# Altium schematic symbol library kmilo17pet-NSC_Switcher.SchLib: 2226 symbols (part 37 of 59)
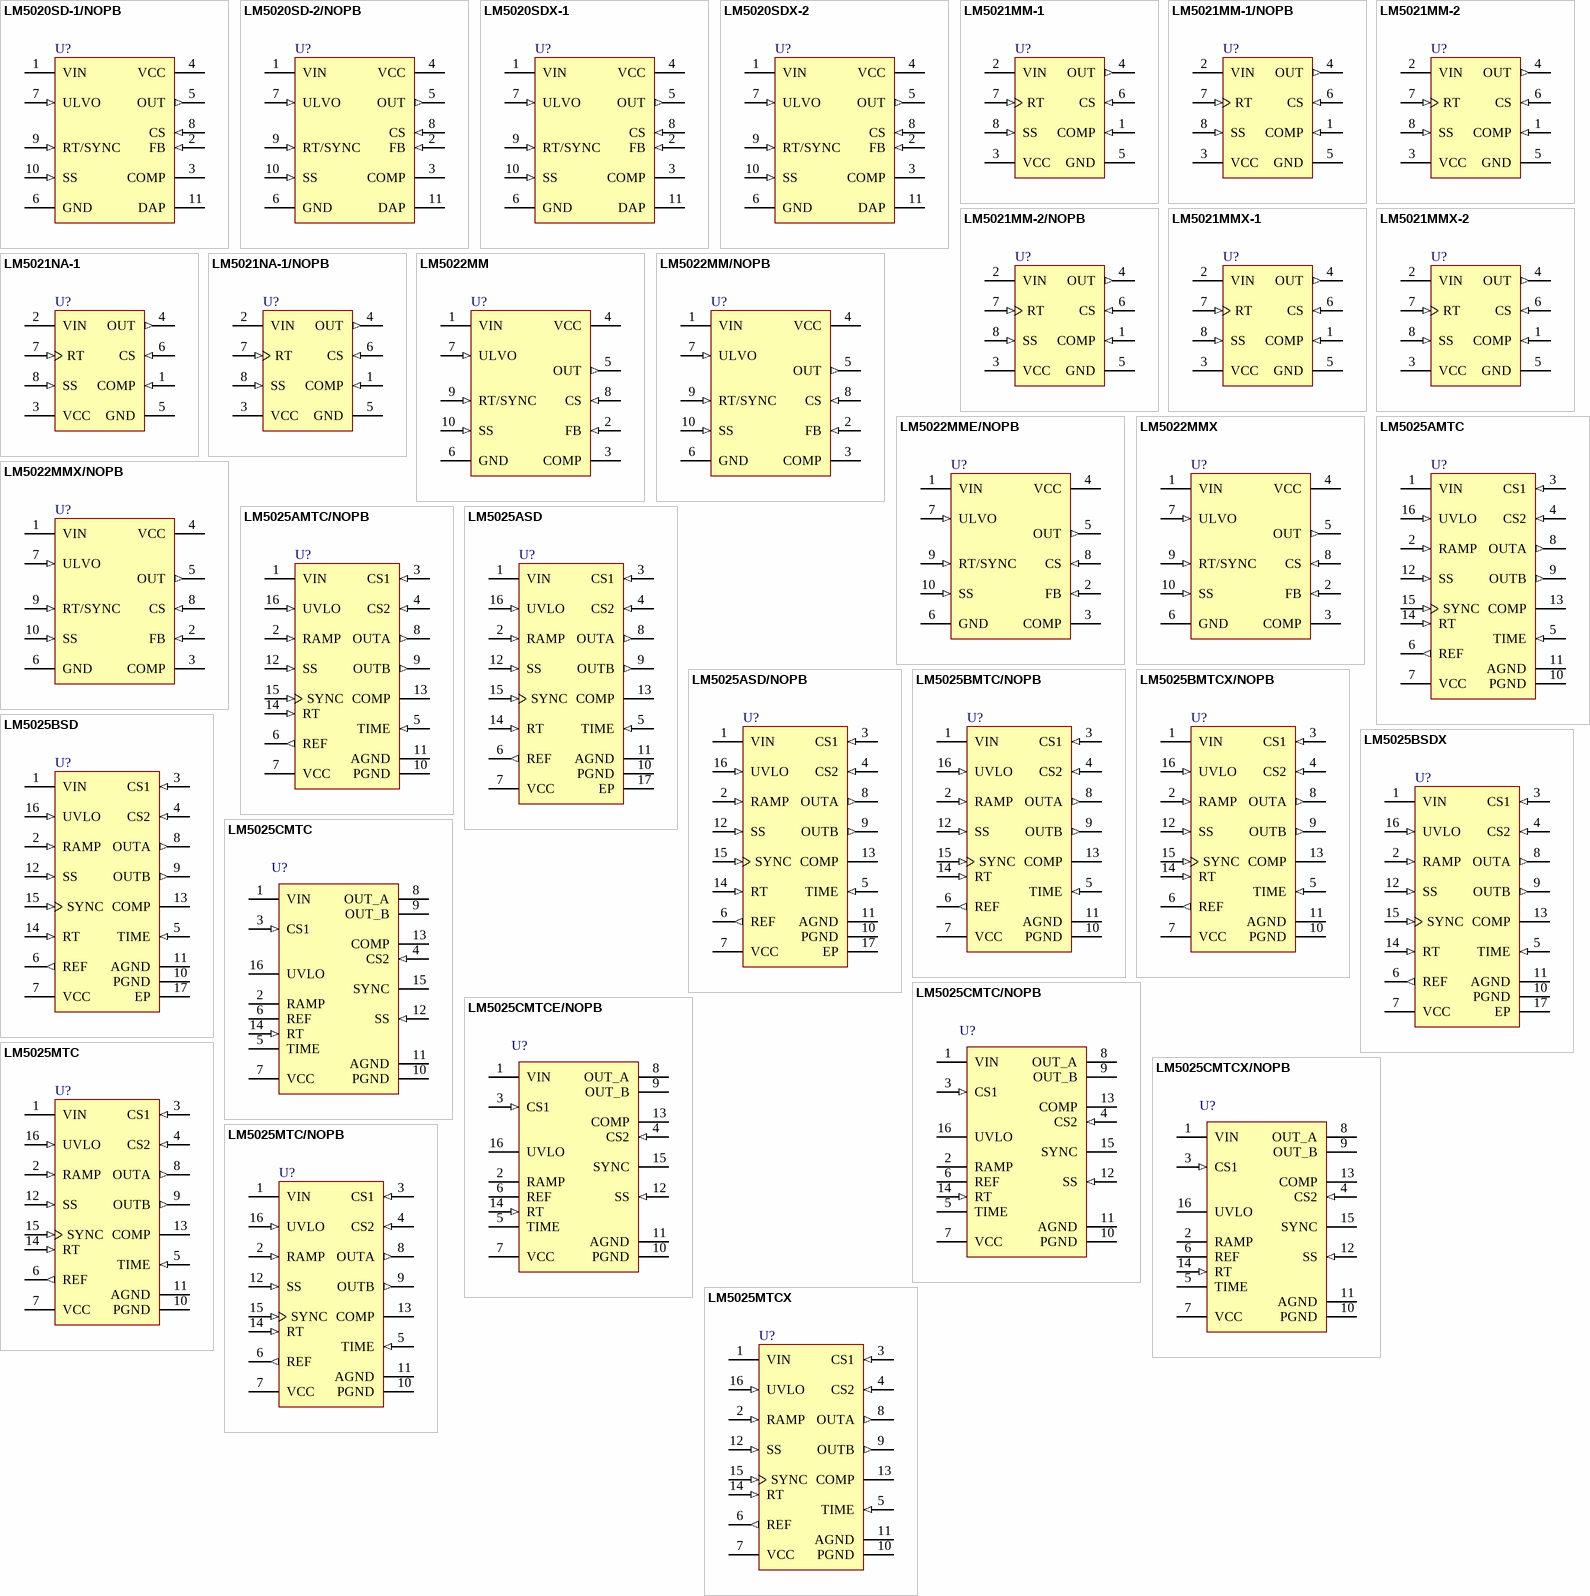
[diagram p105: symbols LM5020SD-1/NOPB to LM5025MTCX]

## LM5025MTCX
designator U?
Active Clamp Voltage Mode PWM Controller, 16-pin TSSOP; PartNumber: LM5025MTCX; Manufacturer: National Semiconductor; PackageTopMarking: NSZXYTT*LM5025*MTC; PowerWise: Y; CompType: Switcher; DatasheetVersion: Mar-2004; PackageVersion: revD, Jun-2003; PackageReference: MTC16; PackageDescription: Molded TSSOP, Jedec, 5 x 4.4 x 0.9mm Body, 16 Lead, 0.65mm Pitch; RoHS: N; PinCount: 16; High-Reliability: Y; Code_JEDEC: MO-153-AB; ComponentLink1Description: Manufacturer URL; ComponentLink1URL: http://www.national.com/; ComponentLink2Description: LM5025 Datasheet; ComponentLink2URL: http://www.national.com/ds/LM/LM5025.pdf; ComponentLink3Description: LM5025 Web Page; ComponentLink3URL: http://www.national.com/pf/LM/LM5025.html; ComponentLink4Description: MTC16 Package Page; ComponentLink4URL: http://www.national.com/packaging/folders/mtc16.html
footprint MTC16_N (TSOP, 16-Leads, Body 5x4.4mm, Pitch 0.65mm, IPC Medium Density)
footprint MTC16_L (TSOP, 16-Leads, Body 5x4.4mm, Pitch 0.65mm, IPC High Density)
footprint MTC16_M (TSOP, 16-Leads, Body 5x4.4mm, Pitch 0.65mm, IPC Low Density)
pins: 1 VIN (power), 2 RAMP (in), 3 CS1 (in), 4 CS2 (in), 5 TIME (in), 6 REF (out), 7 VCC (power), 8 OUTA (out), 9 OUTB (out), 10 PGND (power), 11 AGND (power), 12 SS (in), 13 COMP, 14 RT (in), 15 SYNC (in), 16 UVLO (in)

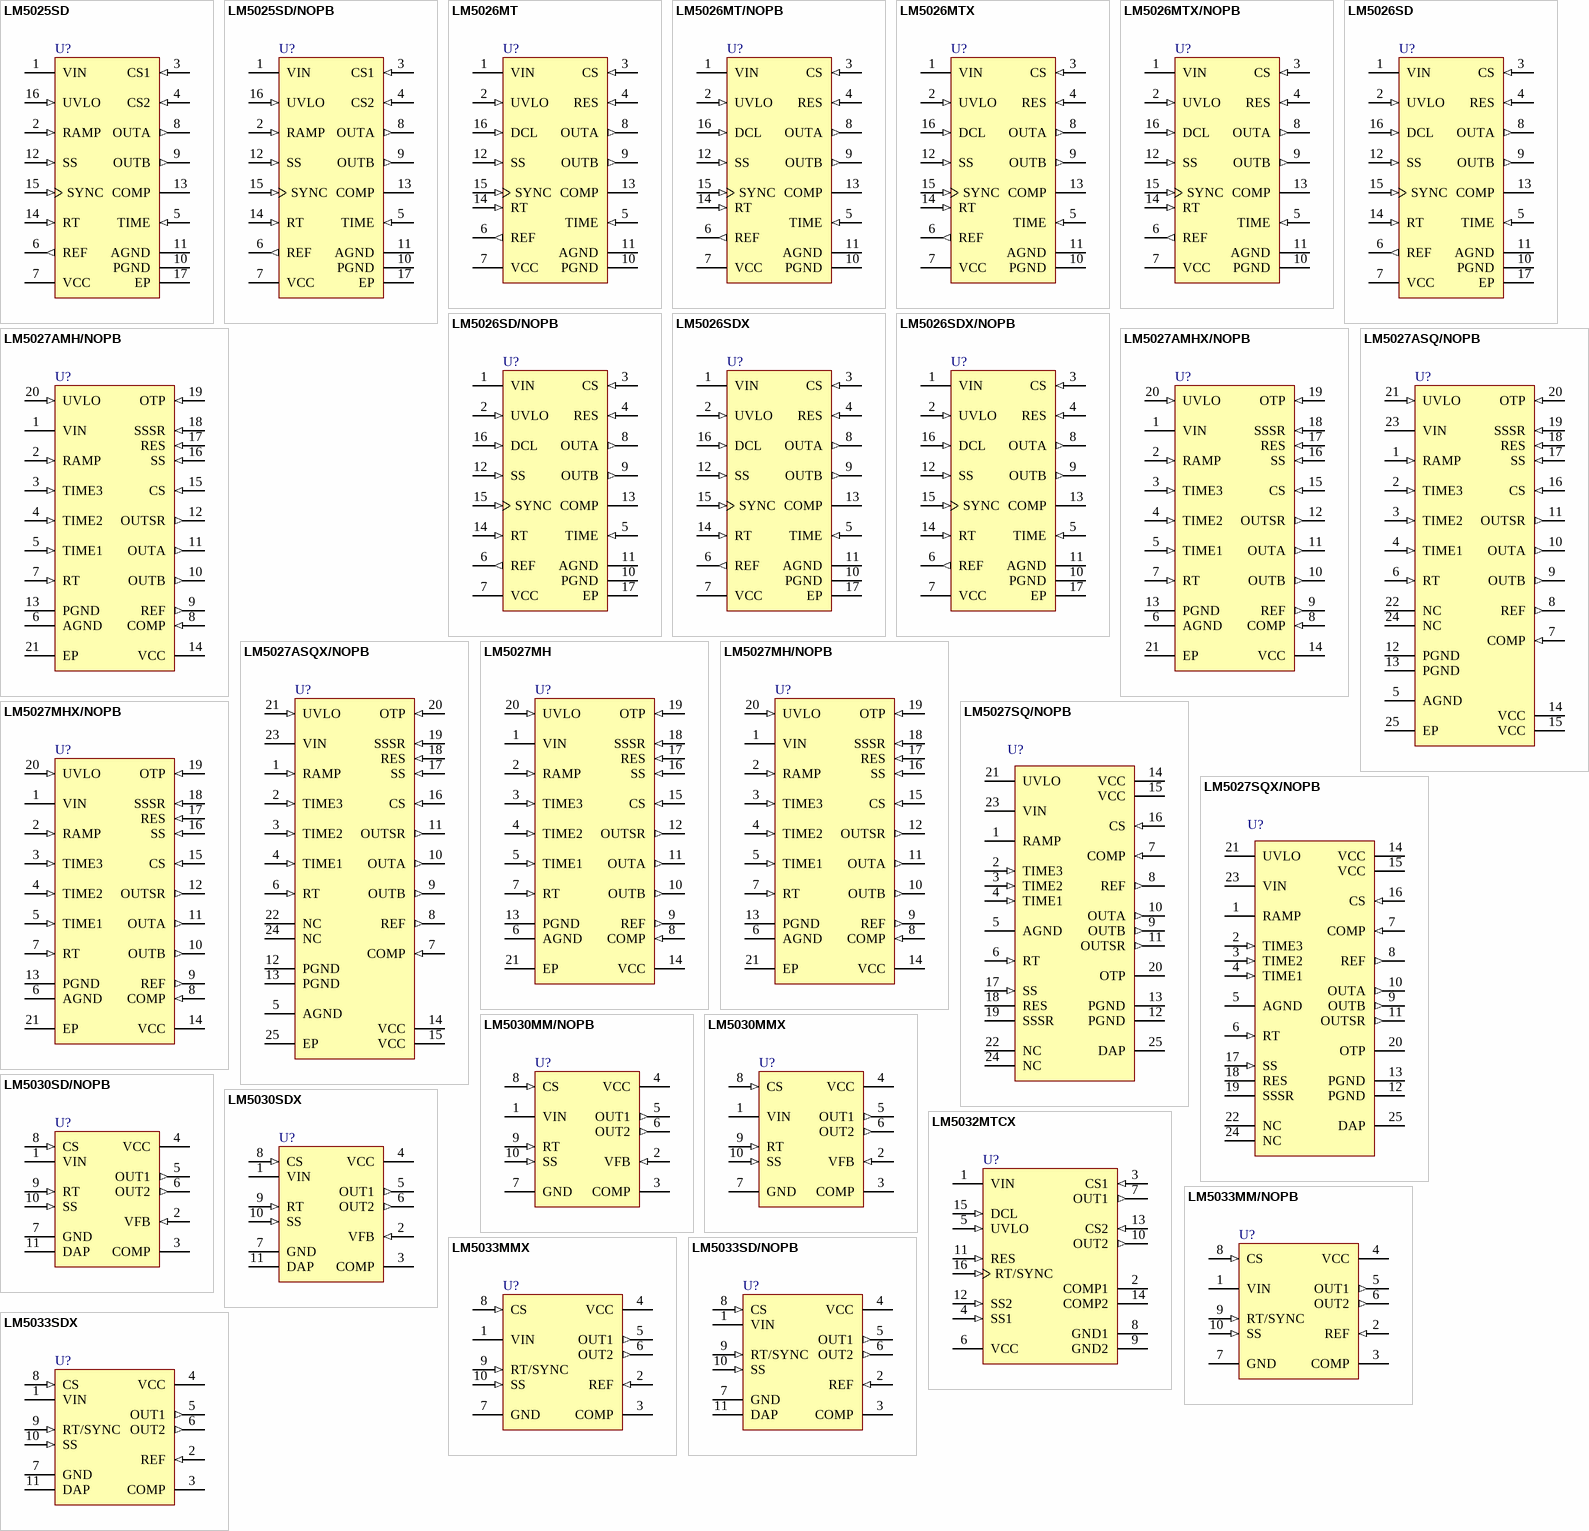
[diagram p40: symbols LM5025SD to LM5033SDX]

## LM5025SD
designator U?
Active Clamp Voltage Mode PWM Controller, 16-pin LLP; PartNumber: LM5025SD; Manufacturer: National Semiconductor; PackageTopMarking: NS*UZXYTT*5025SD; PowerWise: Y; CompType: Switcher; DatasheetVersion: Mar-2004; PackageVersion: revA, May-2003; PackageReference: SDA16A; PackageDescription: LLP, Plastic, Dual, 5 x 5 x 0.8mm Body,16 Lead, 0.5mm Pitch, No Pullback; RoHS: N; PinCount: 16; High-Reliability: Y; ComponentLink1Description: Manufacturer URL; ComponentLink1URL: http://www.national.com/; ComponentLink2Description: LM5025 Datasheet; ComponentLink2URL: http://www.national.com/ds/LM/LM5025.pdf; ComponentLink3Description: LM5025 Web Page; ComponentLink3URL: http://www.national.com/pf/LM/LM5025.html; ComponentLink4Description: SDA16A Package Page; ComponentLink4URL: http://www.national.com/packaging/folders/sda16a.html
footprint SDA16A (SON, 16-Leads, Body 5x5mm, Pitch 0.5mm, NSC Recommended)
pins: 1 VIN (power), 2 RAMP (in), 3 CS1 (in), 4 CS2 (in), 5 TIME (in), 6 REF (out), 7 VCC (power), 8 OUTA (out), 9 OUTB (out), 10 PGND (power), 11 AGND (power), 12 SS (in), 13 COMP, 14 RT (in), 15 SYNC (in), 16 UVLO (in), 17 EP (power)

## LM5025SD/NOPB
designator U?
Active Clamp Voltage Mode PWM Controller, 16-pin LLP, Pb-Free; PartNumber: LM5025SD/NOPB; Manufacturer: National Semiconductor; PackageTopMarking: NS*UZXYTT*5025SD; PowerWise: Y; CompType: Switcher; DatasheetVersion: Mar-2004; PackageVersion: revA, May-2003; PackageReference: SDA16A; PackageDescription: LLP, Plastic, Dual, 5 x 5 x 0.8mm Body,16 Lead, 0.5mm Pitch, No Pullback; RoHS: Y; PinCount: 16; High-Reliability: Y; ComponentLink1Description: Manufacturer URL; ComponentLink1URL: http://www.national.com/; ComponentLink2Description: LM5025 Datasheet; ComponentLink2URL: http://www.national.com/ds/LM/LM5025.pdf; ComponentLink3Description: LM5025 Web Page; ComponentLink3URL: http://www.national.com/pf/LM/LM5025.html; ComponentLink4Description: SDA16A Package Page; ComponentLink4URL: http://www.national.com/packaging/folders/sda16a.html
footprint SDA16A (SON, 16-Leads, Body 5x5mm, Pitch 0.5mm, NSC Recommended)
pins: 1 VIN (power), 2 RAMP (in), 3 CS1 (in), 4 CS2 (in), 5 TIME (in), 6 REF (out), 7 VCC (power), 8 OUTA (out), 9 OUTB (out), 10 PGND (power), 11 AGND (power), 12 SS (in), 13 COMP, 14 RT (in), 15 SYNC (in), 16 UVLO (in), 17 EP (power)

## LM5026MT
designator U?
Active Clamp Current Mode PWM Controller, 16-pin TSSOP; PartNumber: LM5026MT; Manufacturer: National Semiconductor; PackageTopMarking: NSUZXYTT*LM5026*MT; PowerWise: Y; CompType: Switcher; DatasheetVersion: Jan-2006; PackageVersion: revD, Jun-2003; PackageReference: MTC16; PackageDescription: Molded TSSOP, Jedec, 5 x 4.4 x 0.9mm Body, 16 Lead, 0.65mm Pitch; RoHS: N; PinCount: 16; High-Reliability: Y; Code_JEDEC: MO-153-AB; ComponentLink1Description: Manufacturer URL; ComponentLink1URL: http://www.national.com/; ComponentLink2Description: LM5026 Datasheet; ComponentLink2URL: http://www.national.com/ds/LM/LM5026.pdf; ComponentLink3Description: LM5026 Web Page; ComponentLink3URL: http://www.national.com/pf/LM/LM5026.html; ComponentLink4Description: MTC16 Package Page; ComponentLink4URL: http://www.national.com/packaging/folders/mtc16.html
footprint MTC16_N (TSOP, 16-Leads, Body 5x4.4mm, Pitch 0.65mm, IPC Medium Density)
footprint MTC16_L (TSOP, 16-Leads, Body 5x4.4mm, Pitch 0.65mm, IPC High Density)
footprint MTC16_M (TSOP, 16-Leads, Body 5x4.4mm, Pitch 0.65mm, IPC Low Density)
pins: 1 VIN (power), 2 UVLO (in), 3 CS (in), 4 RES (in), 5 TIME (in), 6 REF (out), 7 VCC (power), 8 OUTA (out), 9 OUTB (out), 10 PGND (power), 11 AGND (power), 12 SS (in), 13 COMP, 14 RT (in), 15 SYNC (in), 16 DCL (in)

## LM5026MT/NOPB
designator U?
Active Clamp Current Mode PWM Controller, 16-pin TSSOP, Pb-Free; PartNumber: LM5026MT/NOPB; Manufacturer: National Semiconductor; PackageTopMarking: NSUZXYTT*LM5026*MT; PowerWise: Y; CompType: Switcher; DatasheetVersion: Jan-2006; PackageVersion: revD, Jun-2003; PackageReference: MTC16; PackageDescription: Molded TSSOP, Jedec, 5 x 4.4 x 0.9mm Body, 16 Lead, 0.65mm Pitch; RoHS: Y; PinCount: 16; High-Reliability: Y; Code_JEDEC: MO-153-AB; ComponentLink1Description: Manufacturer URL; ComponentLink1URL: http://www.national.com/; ComponentLink2Description: LM5026 Datasheet; ComponentLink2URL: http://www.national.com/ds/LM/LM5026.pdf; ComponentLink3Description: LM5026 Web Page; ComponentLink3URL: http://www.national.com/pf/LM/LM5026.html; ComponentLink4Description: MTC16 Package Page; ComponentLink4URL: http://www.national.com/packaging/folders/mtc16.html
footprint MTC16_N (TSOP, 16-Leads, Body 5x4.4mm, Pitch 0.65mm, IPC Medium Density)
footprint MTC16_L (TSOP, 16-Leads, Body 5x4.4mm, Pitch 0.65mm, IPC High Density)
footprint MTC16_M (TSOP, 16-Leads, Body 5x4.4mm, Pitch 0.65mm, IPC Low Density)
pins: 1 VIN (power), 2 UVLO (in), 3 CS (in), 4 RES (in), 5 TIME (in), 6 REF (out), 7 VCC (power), 8 OUTA (out), 9 OUTB (out), 10 PGND (power), 11 AGND (power), 12 SS (in), 13 COMP, 14 RT (in), 15 SYNC (in), 16 DCL (in)

## LM5026MTX
designator U?
Active Clamp Current Mode PWM Controller, 16-pin TSSOP; PartNumber: LM5026MTX; Manufacturer: National Semiconductor; PackageTopMarking: NSUZXYTT*LM5026*MT; PowerWise: Y; CompType: Switcher; DatasheetVersion: Jan-2006; PackageVersion: revD, Jun-2003; PackageReference: MTC16; PackageDescription: Molded TSSOP, Jedec, 5 x 4.4 x 0.9mm Body, 16 Lead, 0.65mm Pitch; RoHS: N; PinCount: 16; High-Reliability: Y; Code_JEDEC: MO-153-AB; ComponentLink1Description: Manufacturer URL; ComponentLink1URL: http://www.national.com/; ComponentLink2Description: LM5026 Datasheet; ComponentLink2URL: http://www.national.com/ds/LM/LM5026.pdf; ComponentLink3Description: LM5026 Web Page; ComponentLink3URL: http://www.national.com/pf/LM/LM5026.html; ComponentLink4Description: MTC16 Package Page; ComponentLink4URL: http://www.national.com/packaging/folders/mtc16.html
footprint MTC16_N (TSOP, 16-Leads, Body 5x4.4mm, Pitch 0.65mm, IPC Medium Density)
footprint MTC16_L (TSOP, 16-Leads, Body 5x4.4mm, Pitch 0.65mm, IPC High Density)
footprint MTC16_M (TSOP, 16-Leads, Body 5x4.4mm, Pitch 0.65mm, IPC Low Density)
pins: 1 VIN (power), 2 UVLO (in), 3 CS (in), 4 RES (in), 5 TIME (in), 6 REF (out), 7 VCC (power), 8 OUTA (out), 9 OUTB (out), 10 PGND (power), 11 AGND (power), 12 SS (in), 13 COMP, 14 RT (in), 15 SYNC (in), 16 DCL (in)

## LM5026MTX/NOPB
designator U?
Active Clamp Current Mode PWM Controller, 16-pin TSSOP, Pb-Free; PartNumber: LM5026MTX/NOPB; Manufacturer: National Semiconductor; PackageTopMarking: NSUZXYTT*LM5026*MT; PowerWise: Y; CompType: Switcher; DatasheetVersion: Jan-2006; PackageVersion: revD, Jun-2003; PackageReference: MTC16; PackageDescription: Molded TSSOP, Jedec, 5 x 4.4 x 0.9mm Body, 16 Lead, 0.65mm Pitch; RoHS: Y; PinCount: 16; High-Reliability: Y; Code_JEDEC: MO-153-AB; ComponentLink1Description: Manufacturer URL; ComponentLink1URL: http://www.national.com/; ComponentLink2Description: LM5026 Datasheet; ComponentLink2URL: http://www.national.com/ds/LM/LM5026.pdf; ComponentLink3Description: LM5026 Web Page; ComponentLink3URL: http://www.national.com/pf/LM/LM5026.html; ComponentLink4Description: MTC16 Package Page; ComponentLink4URL: http://www.national.com/packaging/folders/mtc16.html
footprint MTC16_N (TSOP, 16-Leads, Body 5x4.4mm, Pitch 0.65mm, IPC Medium Density)
footprint MTC16_L (TSOP, 16-Leads, Body 5x4.4mm, Pitch 0.65mm, IPC High Density)
footprint MTC16_M (TSOP, 16-Leads, Body 5x4.4mm, Pitch 0.65mm, IPC Low Density)
pins: 1 VIN (power), 2 UVLO (in), 3 CS (in), 4 RES (in), 5 TIME (in), 6 REF (out), 7 VCC (power), 8 OUTA (out), 9 OUTB (out), 10 PGND (power), 11 AGND (power), 12 SS (in), 13 COMP, 14 RT (in), 15 SYNC (in), 16 DCL (in)

## LM5026SD
designator U?
Active Clamp Current Mode PWM Controller, 16-pin LLP; PartNumber: LM5026SD; Manufacturer: National Semiconductor; PackageTopMarking: NS*UZXYTT*5026SD; PowerWise: N; CompType: Switcher; High-Reliability: Y; DatasheetVersion: Jan-2006; PackageVersion: revA, May-2003; PackageReference: SDA16A; PackageDescription: LLP, Plastic, Dual, 5 x 5 x 0.8mm Body,16 Lead, 0.5mm Pitch, No Pullback; RoHS: N; PinCount: 16; ComponentLink1Description: Manufacturer URL; ComponentLink1URL: http://www.national.com/; ComponentLink2Description: LM5026 Datasheet; ComponentLink2URL: http://www.national.com/ds/LM/LM5026.pdf; ComponentLink3Description: LM5026 Web Page; ComponentLink3URL: http://www.national.com/pf/LM/LM5026.html; ComponentLink4Description: SDA16A Package Page; ComponentLink4URL: http://www.national.com/packaging/folders/sda16a.html
footprint SDA16A (SON, 16-Leads, Body 5x5mm, Pitch 0.5mm, NSC Recommended)
pins: 1 VIN (power), 2 UVLO (in), 3 CS (in), 4 RES (in), 5 TIME (in), 6 REF (out), 7 VCC (power), 8 OUTA (out), 9 OUTB (out), 10 PGND (power), 11 AGND (power), 12 SS (in), 13 COMP, 14 RT (in), 15 SYNC (in), 16 DCL (in), 17 EP (power)

## LM5026SD/NOPB
designator U?
Active Clamp Current Mode PWM Controller, 16-pin LLP, Pb-Free; PartNumber: LM5026SD/NOPB; Manufacturer: National Semiconductor; PackageTopMarking: NS*UZXYTT*5026SD; PowerWise: N; CompType: Switcher; High-Reliability: Y; DatasheetVersion: Jan-2006; PackageVersion: revA, May-2003; PackageReference: SDA16A; PackageDescription: LLP, Plastic, Dual, 5 x 5 x 0.8mm Body,16 Lead, 0.5mm Pitch, No Pullback; RoHS: Y; PinCount: 16; ComponentLink1Description: Manufacturer URL; ComponentLink1URL: http://www.national.com/; ComponentLink2Description: LM5026 Datasheet; ComponentLink2URL: http://www.national.com/ds/LM/LM5026.pdf; ComponentLink3Description: LM5026 Web Page; ComponentLink3URL: http://www.national.com/pf/LM/LM5026.html; ComponentLink4Description: SDA16A Package Page; ComponentLink4URL: http://www.national.com/packaging/folders/sda16a.html
footprint SDA16A (SON, 16-Leads, Body 5x5mm, Pitch 0.5mm, NSC Recommended)
pins: 1 VIN (power), 2 UVLO (in), 3 CS (in), 4 RES (in), 5 TIME (in), 6 REF (out), 7 VCC (power), 8 OUTA (out), 9 OUTB (out), 10 PGND (power), 11 AGND (power), 12 SS (in), 13 COMP, 14 RT (in), 15 SYNC (in), 16 DCL (in), 17 EP (power)

## LM5026SDX
designator U?
Active Clamp Current Mode PWM Controller, 16-pin LLP; PartNumber: LM5026SDX; Manufacturer: National Semiconductor; PackageTopMarking: NS*UZXYTT*5026SD; PowerWise: N; CompType: Switcher; High-Reliability: Y; DatasheetVersion: Jan-2006; PackageVersion: revA, May-2003; PackageReference: SDA16A; PackageDescription: LLP, Plastic, Dual, 5 x 5 x 0.8mm Body,16 Lead, 0.5mm Pitch, No Pullback; RoHS: N; PinCount: 16; ComponentLink1Description: Manufacturer URL; ComponentLink1URL: http://www.national.com/; ComponentLink2Description: LM5026 Datasheet; ComponentLink2URL: http://www.national.com/ds/LM/LM5026.pdf; ComponentLink3Description: LM5026 Web Page; ComponentLink3URL: http://www.national.com/pf/LM/LM5026.html; ComponentLink4Description: SDA16A Package Page; ComponentLink4URL: http://www.national.com/packaging/folders/sda16a.html
footprint SDA16A (SON, 16-Leads, Body 5x5mm, Pitch 0.5mm, NSC Recommended)
pins: 1 VIN (power), 2 UVLO (in), 3 CS (in), 4 RES (in), 5 TIME (in), 6 REF (out), 7 VCC (power), 8 OUTA (out), 9 OUTB (out), 10 PGND (power), 11 AGND (power), 12 SS (in), 13 COMP, 14 RT (in), 15 SYNC (in), 16 DCL (in), 17 EP (power)

## LM5026SDX/NOPB
designator U?
Active Clamp Current Mode PWM Controller, 16-pin LLP, Pb-Free; PartNumber: LM5026SDX/NOPB; Manufacturer: National Semiconductor; PackageTopMarking: NS*UZXYTT*5026SD; PowerWise: N; CompType: Switcher; High-Reliability: Y; DatasheetVersion: Jan-2006; PackageVersion: revA, May-2003; PackageReference: SDA16A; PackageDescription: LLP, Plastic, Dual, 5 x 5 x 0.8mm Body,16 Lead, 0.5mm Pitch, No Pullback; RoHS: Y; PinCount: 16; ComponentLink1Description: Manufacturer URL; ComponentLink1URL: http://www.national.com/; ComponentLink2Description: LM5026 Datasheet; ComponentLink2URL: http://www.national.com/ds/LM/LM5026.pdf; ComponentLink3Description: LM5026 Web Page; ComponentLink3URL: http://www.national.com/pf/LM/LM5026.html; ComponentLink4Description: SDA16A Package Page; ComponentLink4URL: http://www.national.com/packaging/folders/sda16a.html
footprint SDA16A (SON, 16-Leads, Body 5x5mm, Pitch 0.5mm, NSC Recommended)
pins: 1 VIN (power), 2 UVLO (in), 3 CS (in), 4 RES (in), 5 TIME (in), 6 REF (out), 7 VCC (power), 8 OUTA (out), 9 OUTB (out), 10 PGND (power), 11 AGND (power), 12 SS (in), 13 COMP, 14 RT (in), 15 SYNC (in), 16 DCL (in), 17 EP (power)

## LM5027AMH/NOPB
designator U?
Voltage Mode Active Clamp Controller, 20 pin TSSOP EXP PAD; PartNumber: LM5027AMH/NOPB; Manufacturer: National Semiconductor; PackageTopMarking: NSUZXYTT*LM5027A*MH; PowerWise: N; CompType: Switcher; High-Reliability: Y; DatasheetVersion: Jul-2010; PackageVersion: revC, Jul-2006; PackageReference: MXA20A; PackageDescription: Molded TSSOP, Jedec, 6.5 x 4.4 x 0.9mm Body, 20 Lead, 0.65mm Pitch, Exposed Pad; RoHS: Y; PinCount: 20; Code_JEDEC: MO-153-ACT; ComponentLink1Description: Manufacturer URL; ComponentLink1URL: http://www.national.com/; ComponentLink2Description: LM5027A Datasheet; ComponentLink2URL: http://www.national.com/ds/LM/LM5027A.pdf; ComponentLink3Description: LM5027A Web Page; ComponentLink3URL: http://www.national.com/pf/LM/LM5027A.html; ComponentLink4Description: MXA20A Package Page; ComponentLink4URL: http://www.national.com/packaging/folders/mxa20a.html
footprint MXA20A_N (TSOP, 20-Leads, Body 6.5x4.4mm, Pitch 0.65mm, Thermal Pad, IPC Medium Density)
footprint MXA20A_L (TSOP, 20-Leads, Body 6.5x4.4mm, Pitch 0.65mm, Thermal Pad, IPC High Density)
footprint MXA20A_M (TSOP, 20-Leads, Body 6.5x4.4mm, Pitch 0.65mm, Thermal Pad, IPC Low Density)
pins: 1 VIN (power), 2 RAMP (in), 3 TIME3 (in), 4 TIME2 (in), 5 TIME1 (in), 6 AGND (power), 7 RT (in), 8 COMP (in), 9 REF (out), 10 OUTB (out), 11 OUTA (out), 12 OUTSR (out), 13 PGND (power), 14 VCC (power), 15 CS (in), 16 SS (in), 17 RES (in), 18 SSSR (in), 19 OTP (in), 20 UVLO (in), 21 EP (power)

## LM5027AMHX/NOPB
designator U?
Voltage Mode Active Clamp Controller, 20 pin TSSOP EXP PAD; PartNumber: LM5027AMHX/NOPB; Manufacturer: National Semiconductor; PackageTopMarking: NSUZXYTT*LM5027A*MH; PowerWise: N; CompType: Switcher; High-Reliability: Y; DatasheetVersion: Jul-2010; PackageVersion: revC, Jul-2006; PackageReference: MXA20A; PackageDescription: Molded TSSOP, Jedec, 6.5 x 4.4 x 0.9mm Body, 20 Lead, 0.65mm Pitch, Exposed Pad; RoHS: Y; PinCount: 20; Code_JEDEC: MO-153-ACT; ComponentLink1Description: Manufacturer URL; ComponentLink1URL: http://www.national.com/; ComponentLink2Description: LM5027A Datasheet; ComponentLink2URL: http://www.national.com/ds/LM/LM5027A.pdf; ComponentLink3Description: LM5027A Web Page; ComponentLink3URL: http://www.national.com/pf/LM/LM5027A.html; ComponentLink4Description: MXA20A Package Page; ComponentLink4URL: http://www.national.com/packaging/folders/mxa20a.html
footprint MXA20A_N (TSOP, 20-Leads, Body 6.5x4.4mm, Pitch 0.65mm, Thermal Pad, IPC Medium Density)
footprint MXA20A_L (TSOP, 20-Leads, Body 6.5x4.4mm, Pitch 0.65mm, Thermal Pad, IPC High Density)
footprint MXA20A_M (TSOP, 20-Leads, Body 6.5x4.4mm, Pitch 0.65mm, Thermal Pad, IPC Low Density)
pins: 1 VIN (power), 2 RAMP (in), 3 TIME3 (in), 4 TIME2 (in), 5 TIME1 (in), 6 AGND (power), 7 RT (in), 8 COMP (in), 9 REF (out), 10 OUTB (out), 11 OUTA (out), 12 OUTSR (out), 13 PGND (power), 14 VCC (power), 15 CS (in), 16 SS (in), 17 RES (in), 18 SSSR (in), 19 OTP (in), 20 UVLO (in), 21 EP (power)

## LM5027ASQ/NOPB
designator U?
Voltage Mode Active Clamp Controller, 24-pin LLP, 1000 Reel; PartNumber: LM5027ASQ/NOPB; Manufacturer: National Semiconductor; PackageTopMarking: NS*UZXYTT*L5027A; PowerWise: N; CompType: Switcher; High-Reliability: Y; DatasheetVersion: Jul-2010; PackageVersion: revA, Oct-2003; PackageReference: SQA24B; PackageDescription: LLP, Plastic, Quad, 5 x 4 x 0.8mm Body, 24 Lead, 0.5mm Pitch, No Pullback; RoHS: Y; PinCount: 24; Code_JEDEC: MO-220-WGHD-1; ComponentLink1Description: Manufacturer URL; ComponentLink1URL: http://www.national.com/; ComponentLink2Description: LM5027A Datasheet; ComponentLink2URL: http://www.national.com/ds/LM/LM5027A.pdf; ComponentLink3Description: LM5027A Web Page; ComponentLink3URL: http://www.national.com/pf/LM/LM5027A.html; ComponentLink4Description: SQA24B Package Page; ComponentLink4URL: http://www.national.com/packaging/folders/sqa24b.html
footprint SQA24B (QFN, 24-Leads, Body 5x4mm, Pitch 0.5mm, NSC Recommended)
pins: 1 RAMP (in), 2 TIME3 (in), 3 TIME2 (in), 4 TIME1 (in), 5 AGND (power), 6 RT (in), 7 COMP (in), 8 REF (out), 9 OUTB (out), 10 OUTA (out), 11 OUTSR (out), 12 PGND (power), 13 PGND (power), 14 VCC (power), 15 VCC (power), 16 CS (in), 17 SS (in), 18 RES (in), 19 SSSR (in), 20 OTP (in), 21 UVLO (in), 22 NC, 23 VIN (power), 24 NC, 25 EP (power)

## LM5027ASQX/NOPB
designator U?
Voltage Mode Active Clamp Controller, 24-pin LLP, 4500 Reel; PartNumber: LM5027ASQX/NOPB; Manufacturer: National Semiconductor; PackageTopMarking: NS*UZXYTT*L5027A; PowerWise: N; CompType: Switcher; High-Reliability: Y; DatasheetVersion: Jul-2010; PackageVersion: revA, Oct-2003; PackageReference: SQA24B; PackageDescription: LLP, Plastic, Quad, 5 x 4 x 0.8mm Body, 24 Lead, 0.5mm Pitch, No Pullback; RoHS: Y; PinCount: 24; Code_JEDEC: MO-220-WGHD-1; ComponentLink1Description: Manufacturer URL; ComponentLink1URL: http://www.national.com/; ComponentLink2Description: LM5027A Datasheet; ComponentLink2URL: http://www.national.com/ds/LM/LM5027A.pdf; ComponentLink3Description: LM5027A Web Page; ComponentLink3URL: http://www.national.com/pf/LM/LM5027A.html; ComponentLink4Description: SQA24B Package Page; ComponentLink4URL: http://www.national.com/packaging/folders/sqa24b.html
footprint SQA24B (QFN, 24-Leads, Body 5x4mm, Pitch 0.5mm, NSC Recommended)
pins: 1 RAMP (in), 2 TIME3 (in), 3 TIME2 (in), 4 TIME1 (in), 5 AGND (power), 6 RT (in), 7 COMP (in), 8 REF (out), 9 OUTB (out), 10 OUTA (out), 11 OUTSR (out), 12 PGND (power), 13 PGND (power), 14 VCC (power), 15 VCC (power), 16 CS (in), 17 SS (in), 18 RES (in), 19 SSSR (in), 20 OTP (in), 21 UVLO (in), 22 NC, 23 VIN (power), 24 NC, 25 EP (power)

## LM5027MH
designator U?
Voltage Mode Active Clamp Controller, 20-pin TSSOP-EP; PartNumber: LM5027MH; Manufacturer: National Semiconductor; PackageTopMarking: NSUZXYTT*LM5027*MH; PowerWise: Y; CompType: Switcher; DatasheetVersion: Nov-2009; PackageVersion: revC, Jul-2006; PackageReference: MXA20A; PackageDescription: Molded TSSOP, Jedec, 6.5 x 4.4 x 0.9mm Body, 20 Lead, 0.65mm Pitch, Exposed Pad; RoHS: Y; PinCount: 20; High-Reliability: Y; Code_JEDEC: MO-153-ACT; ComponentLink1Description: Manufacturer URL; ComponentLink1URL: http://www.national.com/; ComponentLink2Description: LM5027 Datasheet; ComponentLink2URL: http://www.national.com/ds/LM/LM5027.pdf; ComponentLink3Description: LM5027 Web Page; ComponentLink3URL: http://www.national.com/pf/LM/LM5027.html; ComponentLink4Description: MXA20A Package Page; ComponentLink4URL: http://www.national.com/packaging/folders/mxa20a.html
footprint MXA20A_N (TSOP, 20-Leads, Body 6.5x4.4mm, Pitch 0.65mm, Thermal Pad, IPC Medium Density)
footprint MXA20A_L (TSOP, 20-Leads, Body 6.5x4.4mm, Pitch 0.65mm, Thermal Pad, IPC High Density)
footprint MXA20A_M (TSOP, 20-Leads, Body 6.5x4.4mm, Pitch 0.65mm, Thermal Pad, IPC Low Density)
pins: 1 VIN (power), 2 RAMP (in), 3 TIME3 (in), 4 TIME2 (in), 5 TIME1 (in), 6 AGND (power), 7 RT (in), 8 COMP (in), 9 REF (out), 10 OUTB (out), 11 OUTA (out), 12 OUTSR (out), 13 PGND (power), 14 VCC (power), 15 CS (in), 16 SS (in), 17 RES (in), 18 SSSR (in), 19 OTP (in), 20 UVLO (in), 21 EP (power)

## LM5027MH/NOPB
designator U?
Voltage Mode Active Clamp Controller, 20-pin TSSOP-EP, Pb-Free; PartNumber: LM5027MH/NOPB; Manufacturer: National Semiconductor; PackageTopMarking: NSUZXYTT*LM5027*MH; PowerWise: Y; CompType: Switcher; DatasheetVersion: Nov-2009; PackageVersion: revC, Jul-2006; PackageReference: MXA20A; PackageDescription: Molded TSSOP, Jedec, 6.5 x 4.4 x 0.9mm Body, 20 Lead, 0.65mm Pitch, Exposed Pad; RoHS: Y; PinCount: 20; High-Reliability: Y; Code_JEDEC: MO-153-ACT; ComponentLink1Description: Manufacturer URL; ComponentLink1URL: http://www.national.com/; ComponentLink2Description: LM5027 Datasheet; ComponentLink2URL: http://www.national.com/ds/LM/LM5027.pdf; ComponentLink3Description: LM5027 Web Page; ComponentLink3URL: http://www.national.com/pf/LM/LM5027.html; ComponentLink4Description: MXA20A Package Page; ComponentLink4URL: http://www.national.com/packaging/folders/mxa20a.html
footprint MXA20A_N (TSOP, 20-Leads, Body 6.5x4.4mm, Pitch 0.65mm, Thermal Pad, IPC Medium Density)
footprint MXA20A_L (TSOP, 20-Leads, Body 6.5x4.4mm, Pitch 0.65mm, Thermal Pad, IPC High Density)
footprint MXA20A_M (TSOP, 20-Leads, Body 6.5x4.4mm, Pitch 0.65mm, Thermal Pad, IPC Low Density)
pins: 1 VIN (power), 2 RAMP (in), 3 TIME3 (in), 4 TIME2 (in), 5 TIME1 (in), 6 AGND (power), 7 RT (in), 8 COMP (in), 9 REF (out), 10 OUTB (out), 11 OUTA (out), 12 OUTSR (out), 13 PGND (power), 14 VCC (power), 15 CS (in), 16 SS (in), 17 RES (in), 18 SSSR (in), 19 OTP (in), 20 UVLO (in), 21 EP (power)

## LM5027MHX/NOPB
designator U?
Voltage Mode Active Clamp Controller, 20-pin TSSOP-EP, Pb-Free; PartNumber: LM5027MHX/NOPB; Manufacturer: National Semiconductor; PackageTopMarking: NSUZXYTT*LM5027*MH; PowerWise: Y; CompType: Switcher; DatasheetVersion: Nov-2009; PackageVersion: revC, Jul-2006; PackageReference: MXA20A; PackageDescription: Molded TSSOP, Jedec, 6.5 x 4.4 x 0.9mm Body, 20 Lead, 0.65mm Pitch, Exposed Pad; RoHS: Y; PinCount: 20; High-Reliability: Y; Code_JEDEC: MO-153-ACT; ComponentLink1Description: Manufacturer URL; ComponentLink1URL: http://www.national.com/; ComponentLink2Description: LM5027 Datasheet; ComponentLink2URL: http://www.national.com/ds/LM/LM5027.pdf; ComponentLink3Description: LM5027 Web Page; ComponentLink3URL: http://www.national.com/pf/LM/LM5027.html; ComponentLink4Description: MXA20A Package Page; ComponentLink4URL: http://www.national.com/packaging/folders/mxa20a.html
footprint MXA20A_N (TSOP, 20-Leads, Body 6.5x4.4mm, Pitch 0.65mm, Thermal Pad, IPC Medium Density)
footprint MXA20A_L (TSOP, 20-Leads, Body 6.5x4.4mm, Pitch 0.65mm, Thermal Pad, IPC High Density)
footprint MXA20A_M (TSOP, 20-Leads, Body 6.5x4.4mm, Pitch 0.65mm, Thermal Pad, IPC Low Density)
pins: 1 VIN (power), 2 RAMP (in), 3 TIME3 (in), 4 TIME2 (in), 5 TIME1 (in), 6 AGND (power), 7 RT (in), 8 COMP (in), 9 REF (out), 10 OUTB (out), 11 OUTA (out), 12 OUTSR (out), 13 PGND (power), 14 VCC (power), 15 CS (in), 16 SS (in), 17 RES (in), 18 SSSR (in), 19 OTP (in), 20 UVLO (in), 21 EP (power)

## LM5027SQ/NOPB
designator U?
Voltage Mode Active Clamp Controller, 24 pin LLP, Pb-Free; PartNumber: LM5027SQ/NOPB; Manufacturer: National Semiconductor; PackageTopMarking: NS*UZXYTT*L5027; PowerWise: Y; CompType: Switcher; DatasheetVersion: Nov-2009; PackageVersion: revA, Oct-2003; PackageReference: SQA24B; PackageDescription: LLP, Plastic, Quad, 5 x 4 x 0.8mm Body, 24 Lead, 0.5mm Pitch, No Pullback; RoHS: Y; PinCount: 24; High-Reliability: Y; Code_JEDEC: MO-220-WGHD-1; ComponentLink1Description: Manufacturer URL; ComponentLink1URL: http://www.national.com/; ComponentLink2Description: LM5027 Datasheet; ComponentLink2URL: http://www.national.com/ds/LM/LM5027.pdf; ComponentLink3Description: LM5027 Web Page; ComponentLink3URL: http://www.national.com/pf/LM/LM5027.html; ComponentLink4Description: SQA24B Package Page; ComponentLink4URL: http://www.national.com/packaging/folders/sqa24b.html
footprint SQA24B (QFN, 24-Leads, Body 5x4mm, Pitch 0.5mm, NSC Recommended)
pins: 1 RAMP "Vcom Amplifier negative input.", 2 TIME3 (in) "Vcom Amplifier output.", 3 TIME2 (in) "Analog Ground. Connect to AGND plane.", 4 TIME1 (in) "PMOS switch delay.", 5 AGND (power) "Boost Compensation Network Connection.", 6 RT (in) "Output Voltage Feedback input.", 7 COMP (in) "Power Ground. Connect to PGND plane.", 8 REF (out) "Power Ground. Connect to PGND plane.", 9 OUTB (out) "Not internally connected. Leave floating or connect to Ground.", 10 OUTA (out) "Not internally connected. Leave floating or connect to Ground.", 11 OUTSR (out) "NMOS power switch input.", 12 PGND (power) "NMOS power switch input.", 13 PGND (power) "NMOS power switch input.", 14 VCC (power) "Main power input, step-up and switch circuitry.", 15 VCC (power) "PMOS switch input.", 16 CS (in) "PMOS switch output.", 17 SS (in) "PMOS switch control pin.", 18 RES "Analog power input (buffers).", 19 SSSR "Gamma buffer output.", 20 OTP "Gamma buffer input.", 21 UVLO "Not internally connected. Leave floating or connect to Ground.", 22 NC "Not internally connected. Leave floating or connect to Ground.", 23 VIN (power) "Not internally connected. Leave floating or connect to Ground.", 24 NC "Vcom Amplifier positive input.", 25 DAP (power) "Center Die Attach Pad. Connect directly to AGND and PGND pins beneath the device."

## LM5027SQX/NOPB
designator U?
Voltage Mode Active Clamp Controller, 24 pin LLP, Pb-Free; PartNumber: LM5027SQX/NOPB; Manufacturer: National Semiconductor; PackageTopMarking: NS*UZXYTT*L5027; PowerWise: Y; CompType: Switcher; DatasheetVersion: Nov-2009; PackageVersion: revA, Oct-2003; PackageReference: SQA24B; PackageDescription: LLP, Plastic, Quad, 5 x 4 x 0.8mm Body, 24 Lead, 0.5mm Pitch, No Pullback; RoHS: Y; PinCount: 24; High-Reliability: Y; Code_JEDEC: MO-220-WGHD-1; ComponentLink1Description: Manufacturer URL; ComponentLink1URL: http://www.national.com/; ComponentLink2Description: LM5027 Datasheet; ComponentLink2URL: http://www.national.com/ds/LM/LM5027.pdf; ComponentLink3Description: LM5027 Web Page; ComponentLink3URL: http://www.national.com/pf/LM/LM5027.html; ComponentLink4Description: SQA24B Package Page; ComponentLink4URL: http://www.national.com/packaging/folders/sqa24b.html
footprint SQA24B (QFN, 24-Leads, Body 5x4mm, Pitch 0.5mm, NSC Recommended)
pins: 1 RAMP "Vcom Amplifier negative input.", 2 TIME3 (in) "Vcom Amplifier output.", 3 TIME2 (in) "Analog Ground. Connect to AGND plane.", 4 TIME1 (in) "PMOS switch delay.", 5 AGND (power) "Boost Compensation Network Connection.", 6 RT (in) "Output Voltage Feedback input.", 7 COMP (in) "Power Ground. Connect to PGND plane.", 8 REF (out) "Power Ground. Connect to PGND plane.", 9 OUTB (out) "Not internally connected. Leave floating or connect to Ground.", 10 OUTA (out) "Not internally connected. Leave floating or connect to Ground.", 11 OUTSR (out) "NMOS power switch input.", 12 PGND (power) "NMOS power switch input.", 13 PGND (power) "NMOS power switch input.", 14 VCC (power) "Main power input, step-up and switch circuitry.", 15 VCC (power) "PMOS switch input.", 16 CS (in) "PMOS switch output.", 17 SS (in) "PMOS switch control pin.", 18 RES "Analog power input (buffers).", 19 SSSR "Gamma buffer output.", 20 OTP "Gamma buffer input.", 21 UVLO "Not internally connected. Leave floating or connect to Ground.", 22 NC "Not internally connected. Leave floating or connect to Ground.", 23 VIN (power) "Not internally connected. Leave floating or connect to Ground.", 24 NC "Vcom Amplifier positive input.", 25 DAP (power) "Center Die Attach Pad. Connect directly to AGND and PGND pins beneath the device."

## LM5030MM/NOPB
designator U?
100V Push-Pull Current Mode PWM Controller, 10-pin MSOP, Pb-Free; PartNumber: LM5030MM/NOPB; Manufacturer: National Semiconductor; PackageTopMarking: ZXTT*S73B; PowerWise: Y; CompType: Switcher; DatasheetVersion: Mar-2005; PackageVersion: revB, Jul-2003; PackageReference: MUB10A; PackageDescription: Mini-SO, Molded, .118 x .118 x .034in Body, 10 Lead, .0197in Pitch; RoHS: Y; PinCount: 10; High-Reliability: Y; Code_JEDEC: MO-187-BA; ComponentLink1Description: Manufacturer URL; ComponentLink1URL: http://www.national.com/; ComponentLink2Description: LM5030 Datasheet; ComponentLink2URL: http://www.national.com/ds/LM/LM5030.pdf; ComponentLink3Description: LM5030 Web Page; ComponentLink3URL: http://www.national.com/pf/LM/LM5030.html; ComponentLink4Description: MUB10A Package Page; ComponentLink4URL: http://www.national.com/packaging/folders/mub10a.html
footprint MUB10A_N (TSSOP, 10-Leads, Body 3x3mm, Pitch 0.5mm, IPC Medium Density)
footprint MUB10A_L (TSSOP, 10-Leads, Body 3x3mm, Pitch 0.5mm, IPC High Density)
footprint MUB10A_M (TSSOP, 10-Leads, Body 3x3mm, Pitch 0.5mm, IPC Low Density)
pins: 1 VIN (power), 2 VFB (in), 3 COMP, 4 VCC (power), 5 OUT1 (out), 6 OUT2 (out), 7 GND (power), 8 CS (in), 9 RT (in), 10 SS (in)

## LM5030MMX
designator U?
100V Push-Pull Current Mode PWM Controller, 10-pin MSOP; PartNumber: LM5030MMX; Manufacturer: National Semiconductor; PackageTopMarking: ZXTT*S73B; PowerWise: Y; CompType: Switcher; DatasheetVersion: Mar-2005; PackageVersion: revB, Jul-2003; PackageReference: MUB10A; PackageDescription: Mini-SO, Molded, .118 x .118 x .034in Body, 10 Lead, .0197in Pitch; RoHS: N; PinCount: 10; High-Reliability: Y; Code_JEDEC: MO-187-BA; ComponentLink1Description: Manufacturer URL; ComponentLink1URL: http://www.national.com/; ComponentLink2Description: LM5030 Datasheet; ComponentLink2URL: http://www.national.com/ds/LM/LM5030.pdf; ComponentLink3Description: LM5030 Web Page; ComponentLink3URL: http://www.national.com/pf/LM/LM5030.html; ComponentLink4Description: MUB10A Package Page; ComponentLink4URL: http://www.national.com/packaging/folders/mub10a.html
footprint MUB10A_N (TSSOP, 10-Leads, Body 3x3mm, Pitch 0.5mm, IPC Medium Density)
footprint MUB10A_L (TSSOP, 10-Leads, Body 3x3mm, Pitch 0.5mm, IPC High Density)
footprint MUB10A_M (TSSOP, 10-Leads, Body 3x3mm, Pitch 0.5mm, IPC Low Density)
pins: 1 VIN (power), 2 VFB (in), 3 COMP, 4 VCC (power), 5 OUT1 (out), 6 OUT2 (out), 7 GND (power), 8 CS (in), 9 RT (in), 10 SS (in)

## LM5030SD/NOPB
designator U?
100V Push-Pull Current Mode PWM Controller, 10-pin LLP, Pb-Free; PartNumber: LM5030SD/NOPB; Manufacturer: National Semiconductor; PackageTopMarking: NS*UZXYTT*5030SD; PowerWise: Y; CompType: Switcher; DatasheetVersion: Mar-2005; PackageVersion: revA, May-2003; PackageReference: SDC10A; PackageDescription: LLP, Plastic, Dual, 4 x 4 x 0.8mm Body, 10 Lead, 0.8mm Pitch, No Pullback; RoHS: Y; PinCount: 10; High-Reliability: Y; ComponentLink1Description: Manufacturer URL; ComponentLink1URL: http://www.national.com/; ComponentLink2Description: LM5030 Datasheet; ComponentLink2URL: http://www.national.com/ds/LM/LM5030.pdf; ComponentLink3Description: LM5030 Web Page; ComponentLink3URL: http://www.national.com/pf/LM/LM5030.html; ComponentLink4Description: SDC10A Package Page; ComponentLink4URL: http://www.national.com/packaging/folders/sdc10a.html
footprint SDC10A (SON, 10-Leads, Body 4x4 mm, Pitch 0.8mm, NSC Recommended)
pins: 1 VIN (power), 2 VFB (in), 3 COMP, 4 VCC (power), 5 OUT1 (out), 6 OUT2 (out), 7 GND (power), 8 CS (in), 9 RT (in), 10 SS (in), 11 DAP (power)

## LM5030SDX
designator U?
100V Push-Pull Current Mode PWM Controller, 10-pin LLP; PartNumber: LM5030SDX; Manufacturer: National Semiconductor; PackageTopMarking: NS*UZXYTT*5030SD; PowerWise: Y; CompType: Switcher; DatasheetVersion: Mar-2005; PackageVersion: revA, May-2003; PackageReference: SDC10A; PackageDescription: LLP, Plastic, Dual, 4 x 4 x 0.8mm Body, 10 Lead, 0.8mm Pitch, No Pullback; RoHS: N; PinCount: 10; High-Reliability: Y; ComponentLink1Description: Manufacturer URL; ComponentLink1URL: http://www.national.com/; ComponentLink2Description: LM5030 Datasheet; ComponentLink2URL: http://www.national.com/ds/LM/LM5030.pdf; ComponentLink3Description: LM5030 Web Page; ComponentLink3URL: http://www.national.com/pf/LM/LM5030.html; ComponentLink4Description: SDC10A Package Page; ComponentLink4URL: http://www.national.com/packaging/folders/sdc10a.html
footprint SDC10A (SON, 10-Leads, Body 4x4 mm, Pitch 0.8mm, NSC Recommended)
pins: 1 VIN (power), 2 VFB (in), 3 COMP, 4 VCC (power), 5 OUT1 (out), 6 OUT2 (out), 7 GND (power), 8 CS (in), 9 RT (in), 10 SS (in), 11 DAP (power)

## LM5032MTCX
designator U?
High Voltage Dual Interleaved Current Mode Controller, 16-pin TSSOP; PartNumber: LM5032MTCX; Manufacturer: National Semiconductor; PackageTopMarking: NSUZXYTT*LM5032*MTC; PowerWise: Y; CompType: Switcher; DatasheetVersion: Mar-2005; PackageVersion: revD, Jun-2003; PackageReference: MTC16; PackageDescription: Molded TSSOP, Jedec, 5 x 4.4 x 0.9mm Body, 16 Lead, 0.65mm Pitch; RoHS: N; PinCount: 16; High-Reliability: Y; Code_JEDEC: MO-153-AB; ComponentLink1Description: Manufacturer URL; ComponentLink1URL: http://www.national.com/; ComponentLink2Description: LM5032 Datasheet; ComponentLink2URL: http://www.national.com/ds/LM/LM5032.pdf; ComponentLink3Description: LM5032 Web Page; ComponentLink3URL: http://www.national.com/pf/LM/LM5032.html; ComponentLink4Description: MTC16 Package Page; ComponentLink4URL: http://www.national.com/packaging/folders/mtc16.html
footprint MTC16_N (TSOP, 16-Leads, Body 5x4.4mm, Pitch 0.65mm, IPC Medium Density)
footprint MTC16_L (TSOP, 16-Leads, Body 5x4.4mm, Pitch 0.65mm, IPC High Density)
footprint MTC16_M (TSOP, 16-Leads, Body 5x4.4mm, Pitch 0.65mm, IPC Low Density)
pins: 1 VIN (power), 2 COMP1, 3 CS1 (in), 4 SS1 (in), 5 UVLO (in), 6 VCC (power), 7 OUT1 (out), 8 GND1 (power), 9 GND2 (power), 10 OUT2 (out), 11 RES (in), 12 SS2 (in), 13 CS2 (in), 14 COMP2, 15 DCL (in), 16 RT/SYNC (in)

## LM5033MM/NOPB
designator U?
100V Push-Pull Voltage Mode PWM Controller, 10-pin MSOP, Pb-Free; PartNumber: LM5033MM/NOPB; Manufacturer: National Semiconductor; PackageTopMarking: ZXTT*SCVB; PowerWise: Y; CompType: Switcher; DatasheetVersion: Feb-2005; PackageVersion: revB, Jul-2003; PackageReference: MUB10A; PackageDescription: Mini-SO, Molded, .118 x .118 x .034in Body, 10 Lead, .0197in Pitch; RoHS: Y; PinCount: 10; High-Reliability: Y; Code_JEDEC: MO-187-BA; ComponentLink1Description: Manufacturer URL; ComponentLink1URL: http://www.national.com/; ComponentLink2Description: LM5033 Datasheet; ComponentLink2URL: http://www.national.com/ds/LM/LM5033.pdf; ComponentLink3Description: LM5033 Web Page; ComponentLink3URL: http://www.national.com/pf/LM/LM5033.html; ComponentLink4Description: MUB10A Package Page; ComponentLink4URL: http://www.national.com/packaging/folders/mub10a.html
footprint MUB10A_N (TSSOP, 10-Leads, Body 3x3mm, Pitch 0.5mm, IPC Medium Density)
footprint MUB10A_L (TSSOP, 10-Leads, Body 3x3mm, Pitch 0.5mm, IPC High Density)
footprint MUB10A_M (TSSOP, 10-Leads, Body 3x3mm, Pitch 0.5mm, IPC Low Density)
pins: 1 VIN (power), 2 REF (in), 3 COMP, 4 VCC (power), 5 OUT1 (out), 6 OUT2 (out), 7 GND (power), 8 CS (in), 9 RT/SYNC (in), 10 SS (in)

## LM5033MMX
designator U?
100V Push-Pull Voltage Mode PWM Controller, 10-pin MSOP; PartNumber: LM5033MMX; Manufacturer: National Semiconductor; PackageTopMarking: ZXTT*SCVB; PowerWise: Y; CompType: Switcher; DatasheetVersion: Feb-2005; PackageVersion: revB, Jul-2003; PackageReference: MUB10A; PackageDescription: Mini-SO, Molded, .118 x .118 x .034in Body, 10 Lead, .0197in Pitch; RoHS: N; PinCount: 10; High-Reliability: Y; Code_JEDEC: MO-187-BA; ComponentLink1Description: Manufacturer URL; ComponentLink1URL: http://www.national.com/; ComponentLink2Description: LM5033 Datasheet; ComponentLink2URL: http://www.national.com/ds/LM/LM5033.pdf; ComponentLink3Description: LM5033 Web Page; ComponentLink3URL: http://www.national.com/pf/LM/LM5033.html; ComponentLink4Description: MUB10A Package Page; ComponentLink4URL: http://www.national.com/packaging/folders/mub10a.html
footprint MUB10A_N (TSSOP, 10-Leads, Body 3x3mm, Pitch 0.5mm, IPC Medium Density)
footprint MUB10A_L (TSSOP, 10-Leads, Body 3x3mm, Pitch 0.5mm, IPC High Density)
footprint MUB10A_M (TSSOP, 10-Leads, Body 3x3mm, Pitch 0.5mm, IPC Low Density)
pins: 1 VIN (power), 2 REF (in), 3 COMP, 4 VCC (power), 5 OUT1 (out), 6 OUT2 (out), 7 GND (power), 8 CS (in), 9 RT/SYNC (in), 10 SS (in)

## LM5033SD/NOPB
designator U?
100V Push-Pull Voltage Mode PWM Controller, 10-pin LLP, Pb-Free; PartNumber: LM5033SD/NOPB; Manufacturer: National Semiconductor; PackageTopMarking: NS*UZXYTT*5033SD; PowerWise: Y; CompType: Switcher; DatasheetVersion: Feb-2005; PackageVersion: revA, May-2003; PackageReference: SDC10A; PackageDescription: LLP, Plastic, Dual, 4 x 4 x 0.8mm Body, 10 Lead, 0.8mm Pitch, No Pullback; RoHS: Y; PinCount: 10; High-Reliability: Y; ComponentLink1Description: Manufacturer URL; ComponentLink1URL: http://www.national.com/; ComponentLink2Description: LM5033 Datasheet; ComponentLink2URL: http://www.national.com/ds/LM/LM5033.pdf; ComponentLink3Description: LM5033 Web Page; ComponentLink3URL: http://www.national.com/pf/LM/LM5033.html; ComponentLink4Description: SDC10A Package Page; ComponentLink4URL: http://www.national.com/packaging/folders/sdc10a.html
footprint SDC10A (SON, 10-Leads, Body 4x4 mm, Pitch 0.8mm, NSC Recommended)
pins: 1 VIN (power), 2 REF (in), 3 COMP, 4 VCC (power), 5 OUT1 (out), 6 OUT2 (out), 7 GND (power), 8 CS (in), 9 RT/SYNC (in), 10 SS (in), 11 DAP (power)

## LM5033SDX
designator U?
100V Push-Pull Voltage Mode PWM Controller, 10-pin LLP; PartNumber: LM5033SDX; Manufacturer: National Semiconductor; PackageTopMarking: NS*UZXYTT*5033SD; PowerWise: Y; CompType: Switcher; DatasheetVersion: Feb-2005; PackageVersion: revA, May-2003; PackageReference: SDC10A; PackageDescription: LLP, Plastic, Dual, 4 x 4 x 0.8mm Body, 10 Lead, 0.8mm Pitch, No Pullback; RoHS: N; PinCount: 10; High-Reliability: Y; ComponentLink1Description: Manufacturer URL; ComponentLink1URL: http://www.national.com/; ComponentLink2Description: LM5033 Datasheet; ComponentLink2URL: http://www.national.com/ds/LM/LM5033.pdf; ComponentLink3Description: LM5033 Web Page; ComponentLink3URL: http://www.national.com/pf/LM/LM5033.html; ComponentLink4Description: SDC10A Package Page; ComponentLink4URL: http://www.national.com/packaging/folders/sdc10a.html
footprint SDC10A (SON, 10-Leads, Body 4x4 mm, Pitch 0.8mm, NSC Recommended)
pins: 1 VIN (power), 2 REF (in), 3 COMP, 4 VCC (power), 5 OUT1 (out), 6 OUT2 (out), 7 GND (power), 8 CS (in), 9 RT/SYNC (in), 10 SS (in), 11 DAP (power)

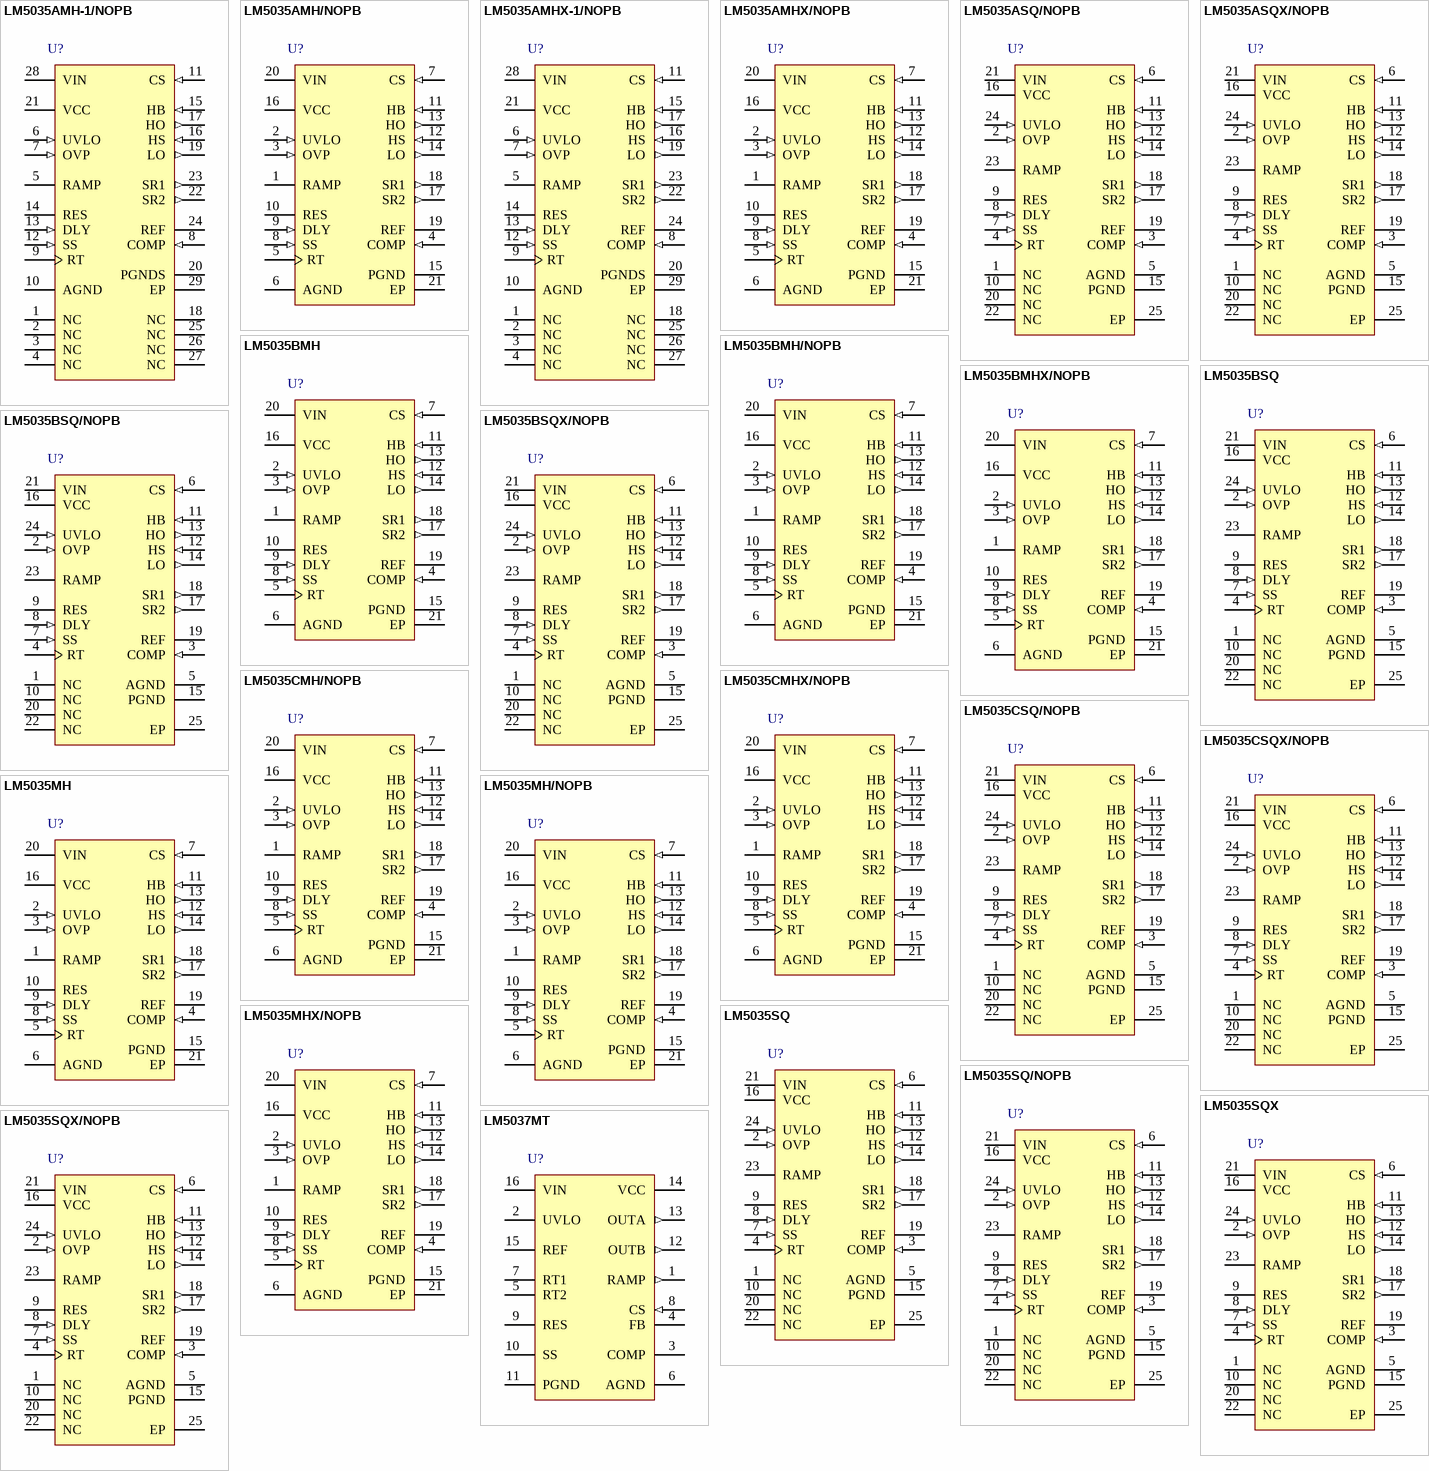
[diagram p41: symbols LM5035AMH-1/NOPB to LM5037MT]

## LM5035AMH-1/NOPB
designator U?
PWM Controller with Integrated  Half-Bridge and SyncFET Drivers, 28 pin TSSOP EXP PAD; PartNumber: LM5035AMH-1/NOPB; Manufacturer: National Semiconductor; PackageTopMarking: NSUZXYTT*LM5035*AMH-1; PowerWise: N; CompType: Switcher; High-Reliability: Y; DatasheetVersion: Jul-2010; PackageVersion: revD, Oct-2003; PackageReference: MXA28A; PackageDescription: Molded TSSOP, Jedec, 9.7 x 4.4 x 0.9mm Body, 28 Lead, 0.65mm Pitch, Exposed Pad; RoHS: Y; PinCount: 28; Code_JEDEC: MO-153-AET; ComponentLink1Description: Manufacturer URL; ComponentLink1URL: http://www.national.com/; ComponentLink2Description: LM5035A Datasheet; ComponentLink2URL: http://www.national.com/ds/LM/LM5035A.pdf; ComponentLink3Description: LM5035A Web Page; ComponentLink3URL: http://www.national.com/pf/LM/LM5035A.html; ComponentLink4Description: MXA28A Package Page; ComponentLink4URL: http://www.national.com/packaging/folders/mxa28a.html
footprint MXA28A_N (TSOP, 28-Leads, Body 9.7x4.4mm, Pitch 0.65mm, Thermal Pad, IPC Medium Density)
footprint MXA28A_L (TSOP, 28-Leads, Body 9.7x4.4mm, Pitch 0.65mm, Thermal Pad, IPC High Density)
footprint MXA28A_M (TSOP, 28-Leads, Body 9.7x4.4mm, Pitch 0.65mm, Thermal Pad, IPC Low Density)
pins: 1 NC, 2 NC, 3 NC, 4 NC, 5 RAMP, 6 UVLO (in), 7 OVP (in), 8 COMP (in), 9 RT (power), 10 AGND (power), 11 CS (in), 12 SS (in), 13 DLY (in), 14 RES, 15 HB (in), 16 HS (in), 17 HO (out), 18 NC, 19 LO (out), 20 PGNDS (power), 21 VCC (power), 22 SR2 (out), 23 SR1 (out), 24 REF (power), 25 NC, 26 NC, 27 NC, 28 VIN (power), 29 EP (power)

## LM5035AMH/NOPB
designator U?
PWM Controller with Integrated Half-Bridge and SyncFET Drivers, 20-pin TSSOP-EP, Pb-Free; PartNumber: LM5035AMH/NOPB; Manufacturer: National Semiconductor; PackageTopMarking: NSUZXYTT*LM5035*AMH; PowerWise: Y; CompType: Switcher; DatasheetVersion: Jul-2010; PackageVersion: revC, Jul-2006; PackageReference: MXA20A; PackageDescription: Molded TSSOP, Jedec, 6.5 x 4.4 x 0.9mm Body, 20 Lead, 0.65mm Pitch, Exposed Pad; RoHS: Y; PinCount: 20; High-Reliability: Y; Code_JEDEC: MO-153-ACT; ComponentLink1Description: Manufacturer URL; ComponentLink1URL: http://www.national.com/; ComponentLink2Description: LM5035A Datasheet; ComponentLink2URL: http://www.national.com/ds/LM/LM5035A.pdf; ComponentLink3Description: LM5035A Web Page; ComponentLink3URL: http://www.national.com/pf/LM/LM5035A.html; ComponentLink4Description: MXA20A Package Page; ComponentLink4URL: http://www.national.com/packaging/folders/mxa20a.html
footprint MXA20A_N (TSOP, 20-Leads, Body 6.5x4.4mm, Pitch 0.65mm, Thermal Pad, IPC Medium Density)
footprint MXA20A_L (TSOP, 20-Leads, Body 6.5x4.4mm, Pitch 0.65mm, Thermal Pad, IPC High Density)
footprint MXA20A_M (TSOP, 20-Leads, Body 6.5x4.4mm, Pitch 0.65mm, Thermal Pad, IPC Low Density)
pins: 1 RAMP, 2 UVLO (in), 3 OVP (in), 4 COMP (in), 5 RT (power), 6 AGND (power), 7 CS (in), 8 SS (in), 9 DLY (in), 10 RES, 11 HB (in), 12 HS (in), 13 HO (out), 14 LO (out), 15 PGND (power), 16 VCC (power), 17 SR2 (out), 18 SR1 (out), 19 REF (power), 20 VIN (power), 21 EP (power)

## LM5035AMHX-1/NOPB
designator U?
PWM Controller with Integrated  Half-Bridge and SyncFET Drivers, 28 pin TSSOP EXP PAD; PartNumber: LM5035AMHX-1/NOPB; Manufacturer: National Semiconductor; PackageTopMarking: NSUZXYTT*LM5035*AMH-1; PowerWise: N; CompType: Switcher; High-Reliability: Y; DatasheetVersion: Jul-2010; PackageVersion: revD, Oct-2003; PackageReference: MXA28A; PackageDescription: Molded TSSOP, Jedec, 9.7 x 4.4 x 0.9mm Body, 28 Lead, 0.65mm Pitch, Exposed Pad; RoHS: Y; PinCount: 28; Code_JEDEC: MO-153-AET; ComponentLink1Description: Manufacturer URL; ComponentLink1URL: http://www.national.com/; ComponentLink2Description: LM5035A Datasheet; ComponentLink2URL: http://www.national.com/ds/LM/LM5035A.pdf; ComponentLink3Description: LM5035A Web Page; ComponentLink3URL: http://www.national.com/pf/LM/LM5035A.html; ComponentLink4Description: MXA28A Package Page; ComponentLink4URL: http://www.national.com/packaging/folders/mxa28a.html
footprint MXA28A_N (TSOP, 28-Leads, Body 9.7x4.4mm, Pitch 0.65mm, Thermal Pad, IPC Medium Density)
footprint MXA28A_L (TSOP, 28-Leads, Body 9.7x4.4mm, Pitch 0.65mm, Thermal Pad, IPC High Density)
footprint MXA28A_M (TSOP, 28-Leads, Body 9.7x4.4mm, Pitch 0.65mm, Thermal Pad, IPC Low Density)
pins: 1 NC, 2 NC, 3 NC, 4 NC, 5 RAMP, 6 UVLO (in), 7 OVP (in), 8 COMP (in), 9 RT (power), 10 AGND (power), 11 CS (in), 12 SS (in), 13 DLY (in), 14 RES, 15 HB (in), 16 HS (in), 17 HO (out), 18 NC, 19 LO (out), 20 PGNDS (power), 21 VCC (power), 22 SR2 (out), 23 SR1 (out), 24 REF (power), 25 NC, 26 NC, 27 NC, 28 VIN (power), 29 EP (power)

## LM5035AMHX/NOPB
designator U?
PWM Controller with Integrated Half-Bridge and SyncFET Drivers, 20-pin TSSOP-EP, Pb-Free; PartNumber: LM5035AMHX/NOPB; Manufacturer: National Semiconductor; PackageTopMarking: NSUZXYTT*LM5035*AMH; PowerWise: Y; CompType: Switcher; DatasheetVersion: Jul-2010; PackageVersion: revC, Jul-2006; PackageReference: MXA20A; PackageDescription: Molded TSSOP, Jedec, 6.5 x 4.4 x 0.9mm Body, 20 Lead, 0.65mm Pitch, Exposed Pad; RoHS: Y; PinCount: 20; High-Reliability: Y; Code_JEDEC: MO-153-ACT; ComponentLink1Description: Manufacturer URL; ComponentLink1URL: http://www.national.com/; ComponentLink2Description: LM5035A Datasheet; ComponentLink2URL: http://www.national.com/ds/LM/LM5035A.pdf; ComponentLink3Description: LM5035A Web Page; ComponentLink3URL: http://www.national.com/pf/LM/LM5035A.html; ComponentLink4Description: MXA20A Package Page; ComponentLink4URL: http://www.national.com/packaging/folders/mxa20a.html
footprint MXA20A_N (TSOP, 20-Leads, Body 6.5x4.4mm, Pitch 0.65mm, Thermal Pad, IPC Medium Density)
footprint MXA20A_L (TSOP, 20-Leads, Body 6.5x4.4mm, Pitch 0.65mm, Thermal Pad, IPC High Density)
footprint MXA20A_M (TSOP, 20-Leads, Body 6.5x4.4mm, Pitch 0.65mm, Thermal Pad, IPC Low Density)
pins: 1 RAMP, 2 UVLO (in), 3 OVP (in), 4 COMP (in), 5 RT (power), 6 AGND (power), 7 CS (in), 8 SS (in), 9 DLY (in), 10 RES, 11 HB (in), 12 HS (in), 13 HO (out), 14 LO (out), 15 PGND (power), 16 VCC (power), 17 SR2 (out), 18 SR1 (out), 19 REF (power), 20 VIN (power), 21 EP (power)

## LM5035ASQ/NOPB
designator U?
PWM Controller with Integrated Half-Bridge and SyncFET Drivers, 24-pin LLP, Pb-Free; PartNumber: LM5035ASQ/NOPB; Manufacturer: National Semiconductor; PackageTopMarking: NS*UZXYTT*5035ASQ; PowerWise: Y; CompType: Switcher; DatasheetVersion: Jul-2010; PackageVersion: revA, Oct-2003; PackageReference: SQA24B; PackageDescription: LLP, Plastic, Quad, 5 x 4 x 0.8mm Body, 24 Lead, 0.5mm Pitch, No Pullback; RoHS: Y; PinCount: 24; High-Reliability: Y; Code_JEDEC: MO-220-WGHD-1; ComponentLink1Description: Manufacturer URL; ComponentLink1URL: http://www.national.com/; ComponentLink2Description: LM5035A Datasheet; ComponentLink2URL: http://www.national.com/ds/LM/LM5035A.pdf; ComponentLink3Description: LM5035A Web Page; ComponentLink3URL: http://www.national.com/pf/LM/LM5035A.html; ComponentLink4Description: SQA24B Package Page; ComponentLink4URL: http://www.national.com/packaging/folders/sqa24b.html
footprint SQA24B (QFN, 24-Leads, Body 5x4mm, Pitch 0.5mm, NSC Recommended)
pins: 1 NC, 2 OVP (in), 3 COMP (in), 4 RT (power), 5 AGND (power), 6 CS (in), 7 SS (in), 8 DLY (in), 9 RES, 10 NC, 11 HB (in), 12 HS (in), 13 HO (out), 14 LO (out), 15 PGND (power), 16 VCC (power), 17 SR2 (out), 18 SR1 (out), 19 REF (power), 20 NC, 21 VIN (power), 22 NC, 23 RAMP, 24 UVLO (in), 25 EP (power)

## LM5035ASQX/NOPB
designator U?
PWM Controller with Integrated Half-Bridge and SyncFET Drivers, 24-pin LLP, Pb-Free; PartNumber: LM5035ASQX/NOPB; Manufacturer: National Semiconductor; PackageTopMarking: NS*UZXYTT*5035ASQ; PowerWise: Y; CompType: Switcher; DatasheetVersion: Jul-2010; PackageVersion: revA, Oct-2003; PackageReference: SQA24B; PackageDescription: LLP, Plastic, Quad, 5 x 4 x 0.8mm Body, 24 Lead, 0.5mm Pitch, No Pullback; RoHS: Y; PinCount: 24; High-Reliability: Y; Code_JEDEC: MO-220-WGHD-1; ComponentLink1Description: Manufacturer URL; ComponentLink1URL: http://www.national.com/; ComponentLink2Description: LM5035A Datasheet; ComponentLink2URL: http://www.national.com/ds/LM/LM5035A.pdf; ComponentLink3Description: LM5035A Web Page; ComponentLink3URL: http://www.national.com/pf/LM/LM5035A.html; ComponentLink4Description: SQA24B Package Page; ComponentLink4URL: http://www.national.com/packaging/folders/sqa24b.html
footprint SQA24B (QFN, 24-Leads, Body 5x4mm, Pitch 0.5mm, NSC Recommended)
pins: 1 NC, 2 OVP (in), 3 COMP (in), 4 RT (power), 5 AGND (power), 6 CS (in), 7 SS (in), 8 DLY (in), 9 RES, 10 NC, 11 HB (in), 12 HS (in), 13 HO (out), 14 LO (out), 15 PGND (power), 16 VCC (power), 17 SR2 (out), 18 SR1 (out), 19 REF (power), 20 NC, 21 VIN (power), 22 NC, 23 RAMP, 24 UVLO (in), 25 EP (power)

## LM5035BMH
designator U?
PWM Controller with Integrated Half-Bridge and SyncFET Drivers, 20-pin TSSOP-EP; PartNumber: LM5035BMH; Manufacturer: National Semiconductor; PackageTopMarking: NSUZXYTT*LM5035*BMH; PowerWise: N; CompType: Switcher; High-Reliability: Y; DatasheetVersion: Jul-2009; PackageVersion: revC, Jul-2006; PackageReference: MXA20A; PackageDescription: Molded TSSOP, Jedec, 6.5 x 4.4 x 0.9mm Body, 20 Lead, 0.65mm Pitch, Exposed Pad; RoHS: Y; PinCount: 20; Code_JEDEC: MO-153-ACT; ComponentLink1Description: Manufacturer URL; ComponentLink1URL: http://www.national.com/; ComponentLink2Description: LM5035B Datasheet; ComponentLink2URL: http://www.national.com/ds/LM/LM5035B.pdf; ComponentLink3Description: LM5035B Web Page; ComponentLink3URL: http://www.national.com/pf/LM/LM5035B.html; ComponentLink4Description: MXA20A Package Page; ComponentLink4URL: http://www.national.com/packaging/folders/mxa20a.html
footprint MXA20A_N (TSOP, 20-Leads, Body 6.5x4.4mm, Pitch 0.65mm, Thermal Pad, IPC Medium Density)
footprint MXA20A_L (TSOP, 20-Leads, Body 6.5x4.4mm, Pitch 0.65mm, Thermal Pad, IPC High Density)
footprint MXA20A_M (TSOP, 20-Leads, Body 6.5x4.4mm, Pitch 0.65mm, Thermal Pad, IPC Low Density)
pins: 1 RAMP, 2 UVLO (in), 3 OVP (in), 4 COMP (in), 5 RT (power), 6 AGND (power), 7 CS (in), 8 SS (in), 9 DLY (in), 10 RES, 11 HB (in), 12 HS (in), 13 HO (out), 14 LO (out), 15 PGND (power), 16 VCC (power), 17 SR2 (out), 18 SR1 (out), 19 REF (power), 20 VIN (power), 21 EP (power)